# Altium footprint library 2 pin.PcbLib: 1 footprints
Each footprint in its own frame and in the unit in brackets; x right, y up, seen from the top. Pads: shape width x height; smd on the part's side, far side on the other; paste and mask are expansions set on the pad; w line width, h text height; cw(c..) or ccw(c..) is an arc to the next point about the centre after c.
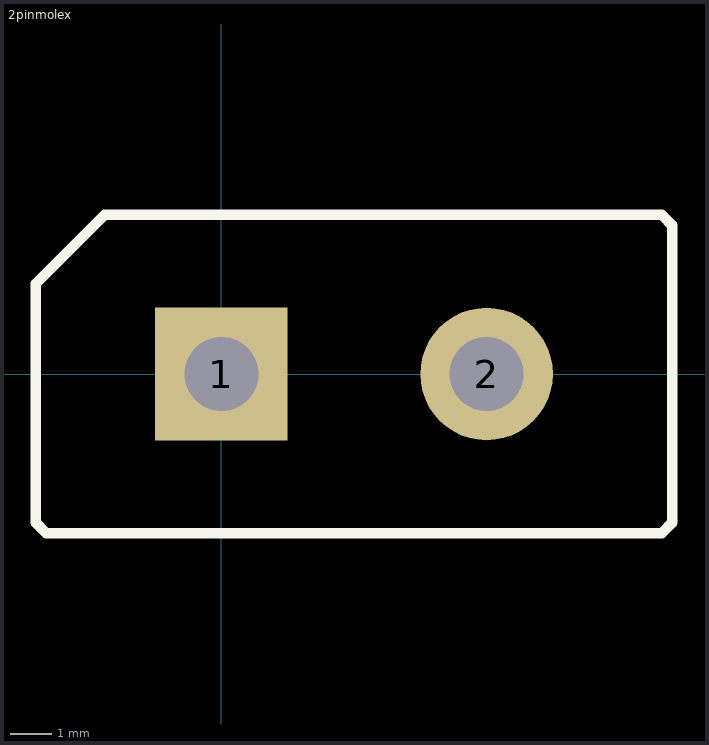
[diagram p0: the footprint, top view; thin cyan lines are the x and y axes]

## 2pinmolex [mil]
pads (2):
  rect 125x125 hole 70: 1(0,0)
  round 125 hole 70: 2(250,0)
Top Overlay:
  lines w10: -175,-140 -175,85 -110,150 415,150 425,140 425,-140 415,-150 -165,-150 -175,-140